# EAGLE library part FLIPPER-GPIO-18 (library flipper-gpio)
Flipper Zero full 18-pin GPIO connector See Measures layer in Board view for mechanical dimensions of the board outline and how it relates to this header. The Flipper_GPIO_Dimension (100) layer in Board view contains a pre-made outline that matches the Flipper Zero documentation. This can be included as the board outline, but be sure that these exactly line up with the existing outline! See Info layer in Schematic view for table of all of the pin MUX settings.
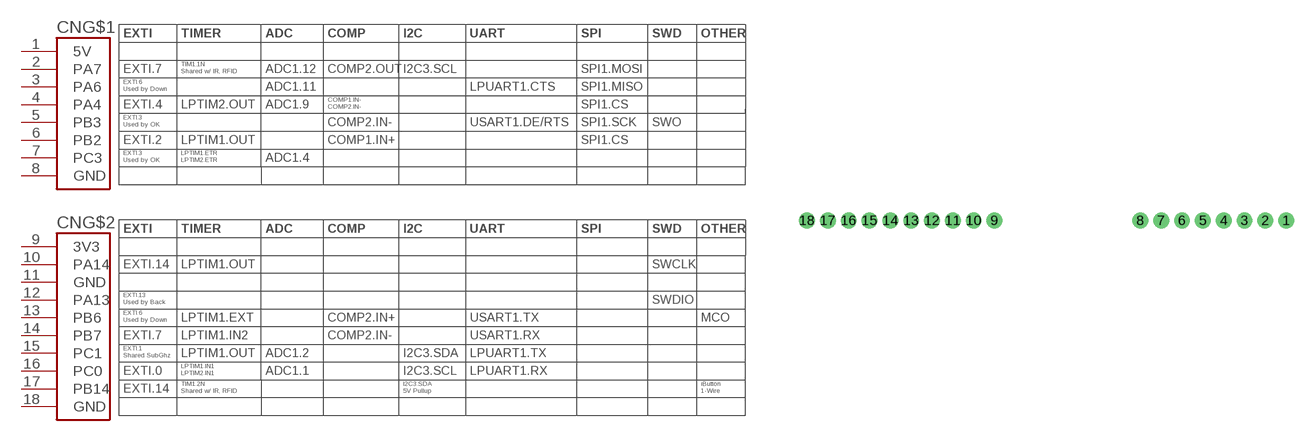
[diagram p5: symbol with the pads of FLIPPER-GPIO-18; footprint FLIPPER-GPIO-18]

Designator prefix CN; gates G$1=FLIPPER-GPIO-8 G$2=FLIPPER-GPIO-10

## FLIPPER-GPIO-18  [FLIPPER-GPIO-18]
1  G$1:5V
2  G$1:PA7
3  G$1:PA6
4  G$1:PA4
5  G$1:PB3
6  G$1:PB2
7  G$1:PC3
8  G$1:GND
9  G$2:3V3
10  G$2:PA14
11  G$2:GND
12  G$2:PA13
13  G$2:PB6
14  G$2:PB7
15  G$2:PC1
16  G$2:PC0
17  G$2:PB14
18  G$2:GND

## Footprint FLIPPER-GPIO-18 (pad centres in mm)
Flipper Zero full 18-pin GPIO connector See Measures layer for mechanical dimensions of the board outline and how it relates to this header. The Flipper_GPIO_Dimension (100) layer contains a pre-made outline that matches the Flipper Zero documentation. This can be included as the board outline, but be sure that these exactly line up with the existing outline!
drill 1.016 pad 1.93: 1 58.42,0; 2 55.88,0; 3 53.34,0; 4 50.8,0; 5 48.26,0; 6 45.72,0; 7 43.18,0; 8 40.64,0; 9 22.86,0; 10 20.32,0; 11 17.78,0; 12 15.24,0; 13 12.7,0; 14 10.16,0; 15 7.62,0; 16 5.08,0; 17 2.54,0; 18 0,0